# EAGLE library part ARJP11A (library ethernet_poe)
RJ45 jack with integrated magnetics and Power over Ethernet support
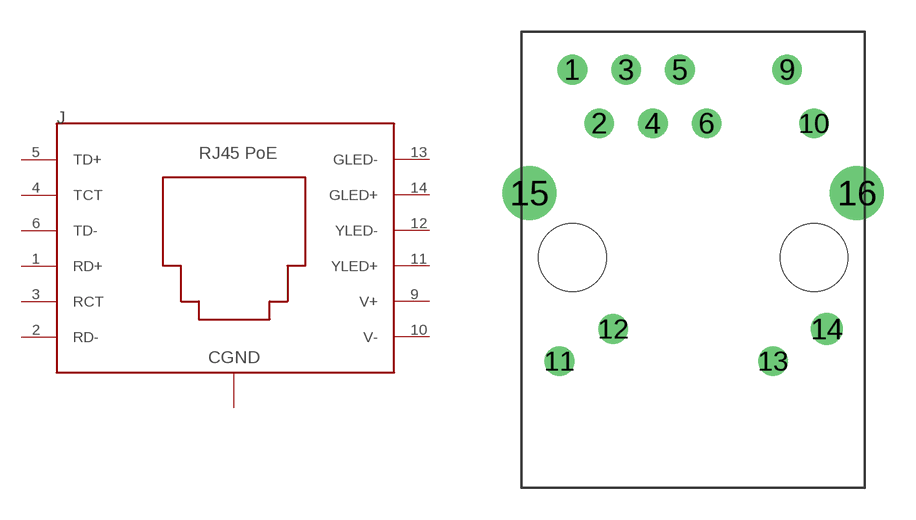
[diagram p1: symbol with the pads of ARJP11A-MBSB-A-B-EMU2; footprint ARJP11A-MBSB-A-B-EMU2]

Designator prefix J

## ARJP11A (DKPN: ARJP11A-MBSB-A-B-EMU2-ND)  [ARJP11A-MBSB-A-B-EMU2]
1  RD+
2  RD-
3  RCT
4  TCT
5  TD+
6  TD-
9  V+
10  V-
11  YLED+
12  YLED-
13  GLED-
14  GLED+
15  CGND
16  CGND

## Footprint ARJP11A-MBSB-A-B-EMU2 (pad centres in mm)
drill 0.9: 1 0,0; 2 1.27,-2.54; 3 2.54,0; 4 3.81,-2.54; 5 5.08,0; 6 6.35,-2.54; 9 10.16,0; 10 11.43,-2.54; 11 -0.61,-13.79; 12 1.93,-12.27; 13 9.5,-13.79
drill 1: 14 12.04,-12.27
drill 1.7: 15 -2.035,-5.84; 16 13.465,-5.84
hole 3.2 at 11.43,-8.89
hole 3.2 at 0,-8.89